# Altium integrated library ST Monitor Amplifier.IntLib: 1 symbol
Pins are listed as number, name and electrical type; pins without a type are passive.

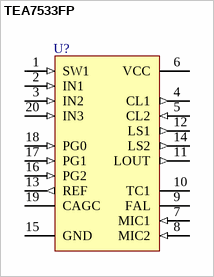
[diagram p0: symbol TEA7533FP]

## TEA7533FP
designator U?
Monitor Amplifier; Published: 24-Aug-2001; LatestRevisionDate: 6-Jun-2005; LatestRevisionNote: Stylized 3D Model Added.; DatasheetDocument: Sep-1993; PackageDocument: Jul-2001; PackageReference: SO20; Publisher: Altium Limited; Code_JEDEC: MS-013-AC; Code_IPC: SO20W; ComponentLink1Description: Manufacturer Link; ComponentLink1URL: http://www.st.com/
footprint SO20 (Small Outline, Plastic; 20 Leads; Body Width 7.5 mm; Pitch 1.27 mm)
3D model SO20 (Small Outline, Plastic; 20 Leads; Body Width 7.5 mm; Pitch 1.27 mm)
pins: 1 SW1 (in), 2 IN1 (in), 3 IN2 (in), 4 CL1 (out), 5 CL2 (in), 6 VCC (power), 7 MIC1 (in), 8 MIC2 (in), 9 FAL, 10 TC1, 11 LOUT (out), 12 LS1 (out), 13 REF (out), 14 LS2 (out), 15 GND (power), 16 PG2 (in), 17 PG1 (in), 18 PG0 (in), 19 CAGC, 20 IN3 (in)